# Altium footprint library PULSE_J00-00xxNL.PcbLib: 1 footprints
Each footprint in its own frame and in the unit in brackets; x right, y up, seen from the top. Pads: shape width x height; smd on the part's side, far side on the other; paste and mask are expansions set on the pad; w line width, h text height; cw(c..) or ccw(c..) is an arc to the next point about the centre after c.
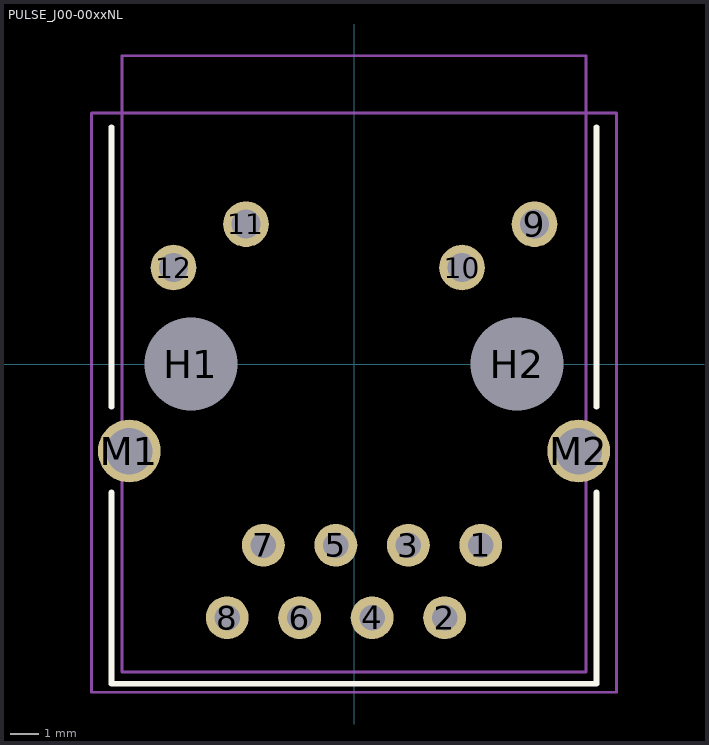
[diagram p0: the footprint, top view; thin cyan lines are the x and y axes]

## PULSE_J00-00xxNL [mm]
pads (16):
  round 1.5 hole 0.89: 1(4.445,-6.35) 2(3.175,-8.89) 3(1.905,-6.35) 4(0.635,-8.89) 5(-0.635,-6.35) 6(-1.905,-8.89) 7(-3.175,-6.35) 8(-4.445,-8.89)
  round 1.6 hole 1.02: 9(6.325,4.9) 10(3.785,3.38) 11(-3.785,4.9) 12(-6.325,3.38)
  round 3.2 hole 3.25 unplated paste+0 mask+0.15: H1(-5.715,0) H2(5.715,0)
  round 2.2 hole 1.63: M1(-7.875,-3.05) M2(7.875,-3.05)
Top Overlay:
  lines w0.2: -8.5,-4.5 -8.5,-11.2 8.5,-11.2 8.5,-4.5 ; -8.5,-1.5 -8.5,8.3 ; 8.5,-1.5 8.5,8.3
Mechanical 13:
  lines w0.1: -8.13,-10.79 8.13,-10.79 8.13,10.8 -8.13,10.8 -8.13,-10.79
Mechanical 15:
  lines w0.1: -9.2,-11.5 -9.2,8.8 9.2,8.8 9.2,-11.5 -9.2,-11.5
3D body: height 15.11, standoff -3.43, extent -9.73,-10.79 9.721,10.8